# Altium schematic symbol library RC0805FR-0718KL.SchLib: 2 symbols
Pins are listed as number, name and electrical type; pins without a type are passive.

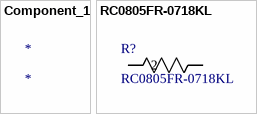
[diagram p0: symbols Component_1 to RC0805FR-0718KL]

## Component_1
designator *

## RC0805FR-0718KL
designator R?
No Description Available; Manufacturer_Name: Yageo; Copyright: Copyright (C) 2025 Ultra Librarian. All rights reserved.; Manufacturer_Part_Number: RC0805FR-0718KL
footprint RC0805N_YAG
pins: 1, 2